# Altium integrated library L829-1J1T-JM.IntLib: 1 symbol
Pins are listed as number, name and electrical type; pins without a type are passive.

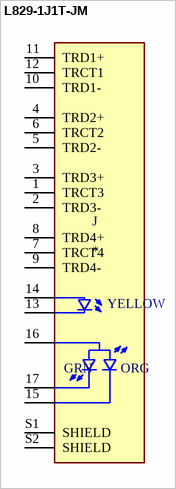
[diagram p0: symbol L829-1J1T-JM]

## L829-1J1T-JM
designator J
MagJack 2.5GBASE-T | 1X1 | OG/Y LED | -40 to 85C | RoHS; MP: L829-1J1T-JM; MF: Bel Magnetic Solutions; DigiKey-Purchase-URL: https://snapeda.com/shop?store=DigiKey&id=2758678; SnapEDA_Link: https://www.snapeda.com/parts/L829-1J1T-JM/Bel%20Magnetic%20Solutions/view-part/2758678/?ref=snap; Digi-Key_Part_Number: 507-2068-ND; Package: None; Value: *
footprint BEL_L829-1J1T-JM
pins: 1 TRCT3, 2 TRD3-, 3 TRD3+, 4 TRD2+, 5 TRD2-, 6 TRCT2, 7 TRCT4, 8 TRD4+, 9 TRD4-, 10 TRD1-, 11 TRD1+, 12 TRCT1, 13 YK_1, 14 YA_1, 15 OK_1, 16 CA, 17 GK_1, S1 SHIELD, S2 SHIELD
text: YELLOW; GRN; ORG